# Altium integrated library 74xx-little-us.IntLib: 55 symbols
Pins are listed as number, name and electrical type; pins without a type are passive.

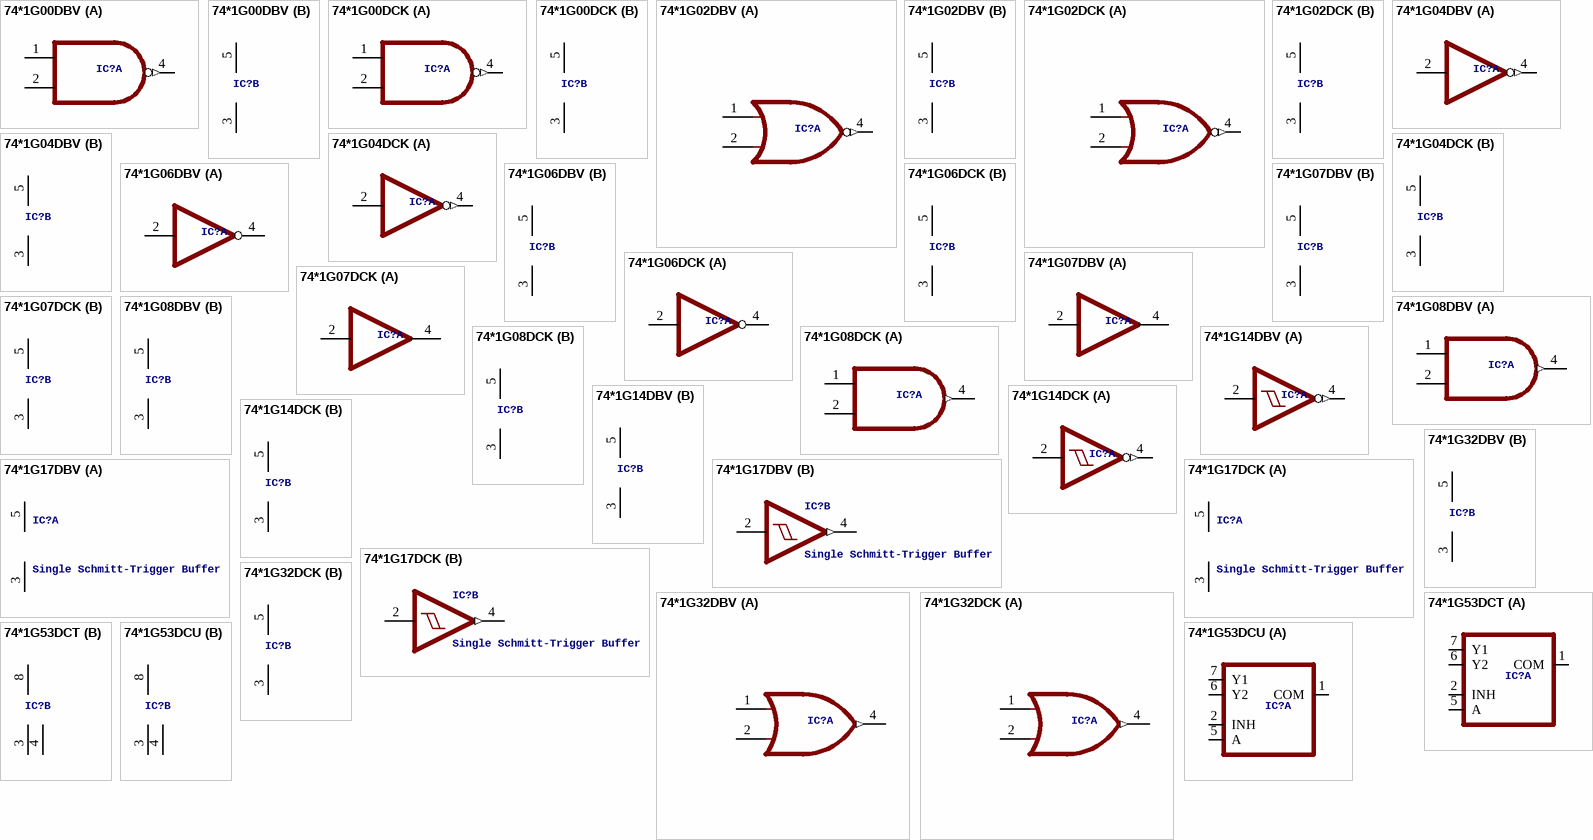
[diagram p0: symbols 74*1G00DBV to 74*1G53DCU]

## 74*1G00DBV
designator IC?, comment 2-input NAND gate  (value not drawn)
footprint SOT23-5
part A pins: 1 I0, 2 I1, 4 O (out)
part B pins: 3 GND (power), 5 VCC (power)

## 74*1G00DCK
designator IC?, comment 2-input NAND gate  (value not drawn)
footprint SC70-5
part A pins: 1 I0, 2 I1, 4 O (out)
part B pins: 3 GND (power), 5 VCC (power)

## 74*1G02DBV
designator IC?, comment 2-input NOR gate  (value not drawn)
footprint SOT23-5
part A pins: 1 I0, 2 I1, 4 O (out)
part B pins: 3 GND (power), 5 VCC (power)

## 74*1G02DCK
designator IC?, comment 2-input NOR gate  (value not drawn)
footprint SC70-5
part A pins: 1 I0, 2 I1, 4 O (out)
part B pins: 3 GND (power), 5 VCC (power)

## 74*1G04DBV
designator IC?, comment INVERTER Gate  (value not drawn)
footprint SOT23-5
part A pins: 2 I, 4 O (out)
part B pins: 3 GND (power), 5 VCC (power)

## 74*1G04DCK
designator IC?, comment INVERTER Gate  (value not drawn)
footprint SC70-5
part A pins: 2 I, 4 O (out)
part B pins: 3 GND (power), 5 VCC (power)

## 74*1G06DBV
designator IC?, comment Single Inverter Buffer/Driver With Open-Drain Output  (value not drawn)
footprint SOT23-5
part A pins: 2 I, 4 O (oc)
part B pins: 3 GND (power), 5 VCC (power)

## 74*1G06DCK
designator IC?, comment Single Inverter Buffer/Driver With Open-Drain Output  (value not drawn)
footprint SC70-5
part A pins: 2 I, 4 O (oc)
part B pins: 3 GND (power), 5 VCC (power)

## 74*1G07DBV
designator IC?, comment Single Buffer/Driver With Open-Drain Output  (value not drawn)
footprint SOT23-5
part A pins: 2 I, 4 O (oc)
part B pins: 3 GND (power), 5 VCC (power)

## 74*1G07DCK
designator IC?, comment Single Buffer/Driver With Open-Drain Output  (value not drawn)
footprint SC70-5
part A pins: 2 I, 4 O (oc)
part B pins: 3 GND (power), 5 VCC (power)

## 74*1G08DBV
designator IC?, comment 2-input AND gate  (value not drawn)
footprint SOT23-5
part A pins: 1 I0, 2 I1, 4 O (out)
part B pins: 3 GND (power), 5 VCC (power)

## 74*1G08DCK
designator IC?, comment 2-input AND gate  (value not drawn)
footprint SC70-5
part A pins: 1 I0, 2 I1, 4 O (out)
part B pins: 3 GND (power), 5 VCC (power)

## 74*1G14DBV
designator IC?, comment Single Schmitt-Trigger Inverter Gate  (value not drawn)
footprint SOT23-5
part A pins: 2 I, 4 O (out)
part B pins: 3 GND (power), 5 VCC (power)

## 74*1G14DCK
designator IC?, comment Single Schmitt-Trigger Inverter Gate  (value not drawn)
footprint SC70-5
part A pins: 2 I, 4 O (out)
part B pins: 3 GND (power), 5 VCC (power)

## 74*1G17DBV
designator IC?, comment Single Schmitt-Trigger Buffer
footprint SOT23-5
part A pins: 3 GND (power), 5 VCC (power)
part B pins: 2 I, 4 O (out)

## 74*1G17DCK
designator IC?, comment Single Schmitt-Trigger Buffer
footprint SC70-5
part A pins: 3 GND (power), 5 VCC (power)
part B pins: 2 I, 4 O (out)

## 74*1G32DBV
designator IC?, comment 2-input OR gate  (value not drawn)
footprint SOT23-5
part A pins: 1 I0, 2 I1, 4 O (out)
part B pins: 3 GND (power), 5 VCC (power)

## 74*1G32DCK
designator IC?, comment 2-input OR gate  (value not drawn)
footprint SC70-5
part A pins: 1 I0, 2 I1, 4 O (out)
part B pins: 3 GND (power), 5 VCC (power)

## 74*1G53DCT
designator IC?, comment SINGLE-POLE DOUBLE-THROW (SPDT) ANALOG SWITCH 2:1 ANALOG MULTIPLEXER/DEMULTIPLEXER   Source: http://focus.ti.com/lit/ds/symlink/sn74lvc2g53.pdf  (value not drawn)
footprint DCT_R-PDSO-G8
part A pins: 1 COM, 2 INH, 5 A, 6 Y2, 7 Y1
part B pins: 3 GND (power), 4 GND@1 (power), 8 VCC (power)

## 74*1G53DCU
designator IC?, comment SINGLE-POLE DOUBLE-THROW (SPDT) ANALOG SWITCH 2:1 ANALOG MULTIPLEXER/DEMULTIPLEXER   Source: http://focus.ti.com/lit/ds/symlink/sn74lvc2g53.pdf  (value not drawn)
footprint DCU_R-PDSO-G8
part A pins: 1 COM, 2 INH, 5 A, 6 Y2, 7 Y1
part B pins: 3 GND (power), 4 GND@1 (power), 8 VCC (power)

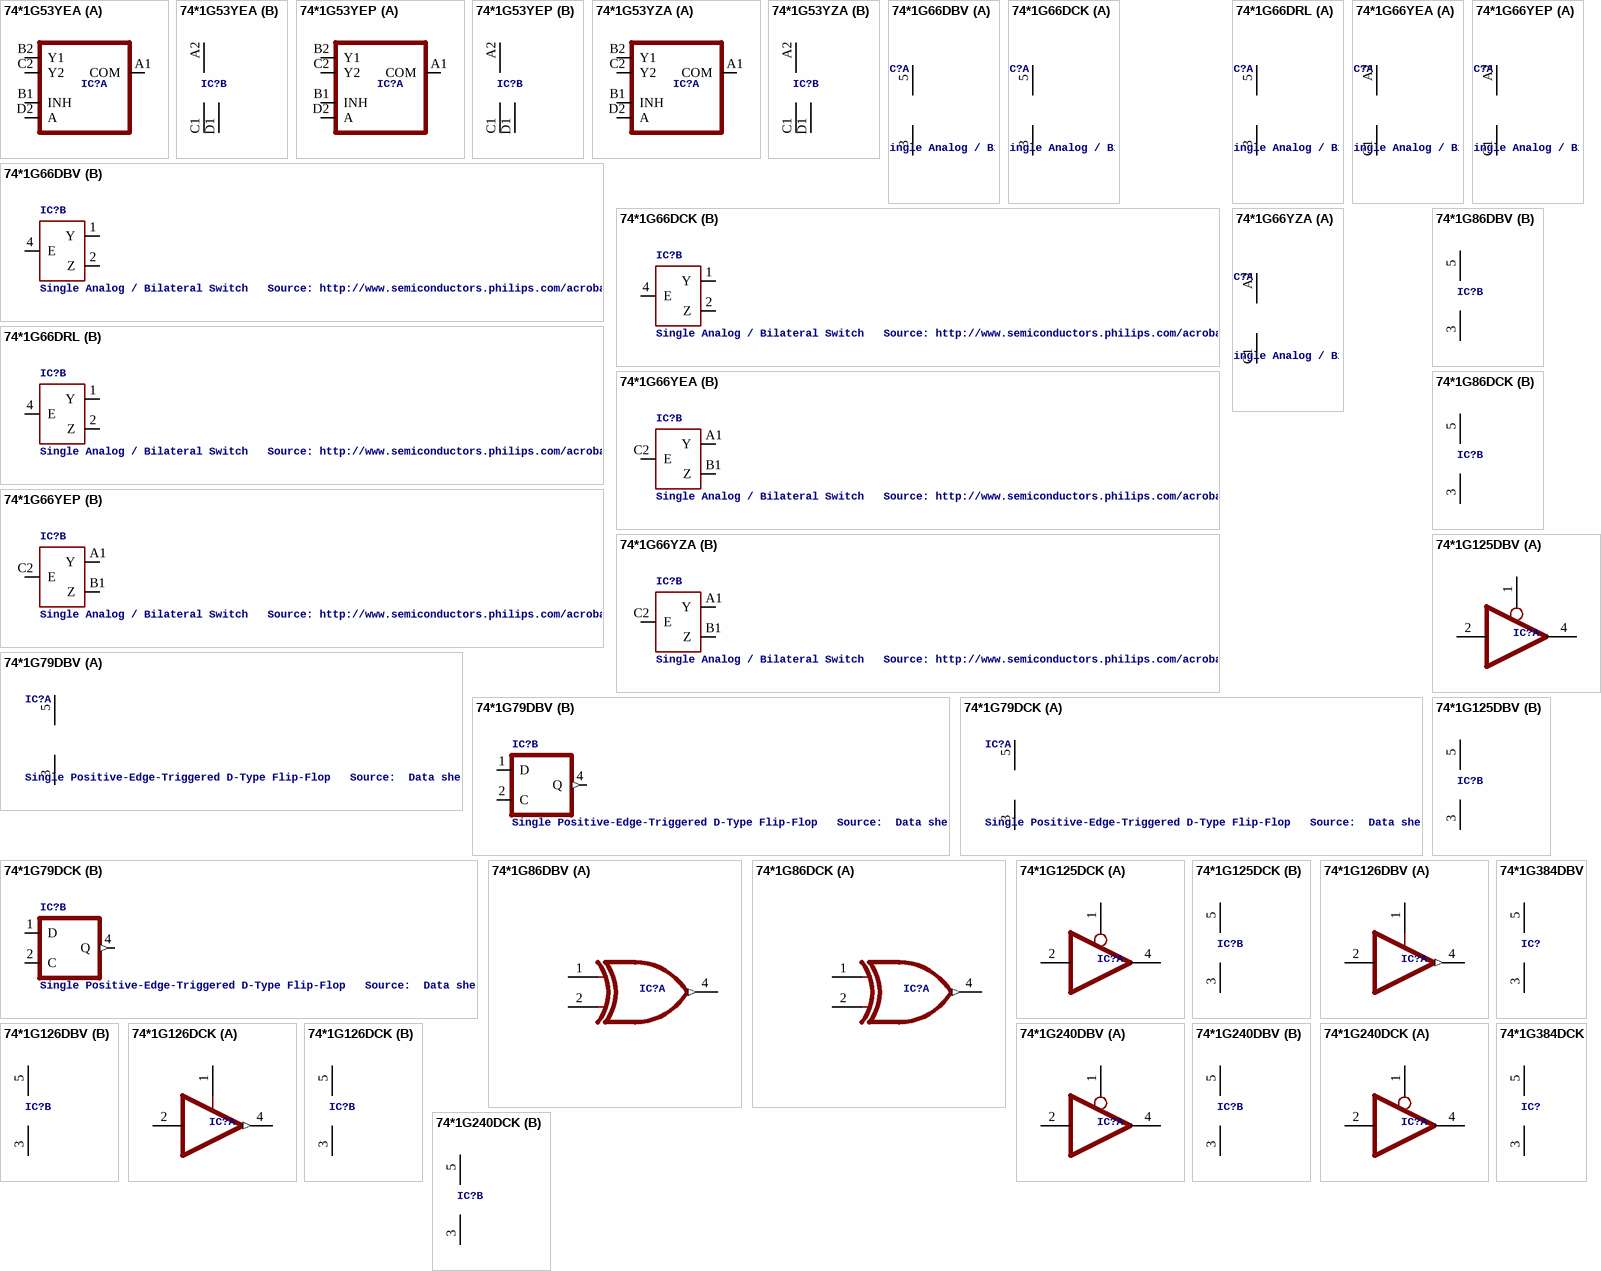
[diagram p1: symbols 74*1G53YEA to 74*1G384DCK]

## 74*1G53YEA
designator IC?, comment SINGLE-POLE DOUBLE-THROW (SPDT) ANALOG SWITCH 2:1 ANALOG MULTIPLEXER/DEMULTIPLEXER   Source: http://focus.ti.com/lit/ds/symlink/sn74lvc2g53.pdf  (value not drawn)
footprint YEA_R-XBGA-N8
part A pins: A1 COM, B1 INH, B2 Y1, C2 Y2, D2 A
part B pins: A2 VCC (power), C1 GND (power), D1 GND@1 (power)

## 74*1G53YEP
designator IC?, comment SINGLE-POLE DOUBLE-THROW (SPDT) ANALOG SWITCH 2:1 ANALOG MULTIPLEXER/DEMULTIPLEXER   Source: http://focus.ti.com/lit/ds/symlink/sn74lvc2g53.pdf  (value not drawn)
footprint YEP_R-XBGA-N8
part A pins: A1 COM, B1 INH, B2 Y1, C2 Y2, D2 A
part B pins: A2 VCC (power), C1 GND (power), D1 GND@1 (power)

## 74*1G53YZA
designator IC?, comment SINGLE-POLE DOUBLE-THROW (SPDT) ANALOG SWITCH 2:1 ANALOG MULTIPLEXER/DEMULTIPLEXER   Source: http://focus.ti.com/lit/ds/symlink/sn74lvc2g53.pdf  (value not drawn)
footprint YZA_R-XBGA-N8
part A pins: A1 COM, B1 INH, B2 Y1, C2 Y2, D2 A
part B pins: A2 VCC (power), C1 GND (power), D1 GND@1 (power)

## 74*1G66DBV
designator IC?, comment Single Analog / Bilateral Switch   Source: http://www.semiconductors.philips.com/acrobat_download/datasheets/74HC_HCT1G66_3.pdf
footprint SOT23-5
part A pins: 3 GND (power), 5 VCC (power)
part B pins: 1 Y, 2 Z, 4 E

## 74*1G66DCK
designator IC?, comment Single Analog / Bilateral Switch   Source: http://www.semiconductors.philips.com/acrobat_download/datasheets/74HC_HCT1G66_3.pdf
footprint SC70-5
part A pins: 3 GND (power), 5 VCC (power)
part B pins: 1 Y, 2 Z, 4 E

## 74*1G66DRL
designator IC?, comment Single Analog / Bilateral Switch   Source: http://www.semiconductors.philips.com/acrobat_download/datasheets/74HC_HCT1G66_3.pdf
footprint DRL_R-PDSO-N6
part A pins: 3 GND (power), 5 VCC (power)
part B pins: 1 Y, 2 Z, 4 E

## 74*1G66YEA
designator IC?, comment Single Analog / Bilateral Switch   Source: http://www.semiconductors.philips.com/acrobat_download/datasheets/74HC_HCT1G66_3.pdf
footprint YEA_R-XBGA-N5
part A pins: A2 VCC (power), C1 GND (power)
part B pins: A1 Y, B1 Z, C2 E

## 74*1G66YEP
designator IC?, comment Single Analog / Bilateral Switch   Source: http://www.semiconductors.philips.com/acrobat_download/datasheets/74HC_HCT1G66_3.pdf
footprint YEP_R-XBGA-N5
part A pins: A2 VCC (power), C1 GND (power)
part B pins: A1 Y, B1 Z, C2 E

## 74*1G66YZA
designator IC?, comment Single Analog / Bilateral Switch   Source: http://www.semiconductors.philips.com/acrobat_download/datasheets/74HC_HCT1G66_3.pdf
footprint YZA_R-XBGA-N5
part A pins: A2 VCC (power), C1 GND (power)
part B pins: A1 Y, B1 Z, C2 E

## 74*1G79DBV
designator IC?, comment Single Positive-Edge-Triggered D-Type Flip-Flop   Source:  Data sheet
footprint SOT23-5
part A pins: 3 GND (power), 5 VCC (power)
part B pins: 1 D, 2 C, 4 Q (out)

## 74*1G79DCK
designator IC?, comment Single Positive-Edge-Triggered D-Type Flip-Flop   Source:  Data sheet
footprint SC70-5
part A pins: 3 GND (power), 5 VCC (power)
part B pins: 1 D, 2 C, 4 Q (out)

## 74*1G86DBV
designator IC?, comment 2-input EXCLUSIV-OR gate  (value not drawn)
footprint SOT23-5
part A pins: 1 I0, 2 I1, 4 O (out)
part B pins: 3 GND (power), 5 VCC (power)

## 74*1G86DCK
designator IC?, comment 2-input EXCLUSIV-OR gate  (value not drawn)
footprint SC70-5
part A pins: 1 I0, 2 I1, 4 O (out)
part B pins: 3 GND (power), 5 VCC (power)

## 74*1G125DBV
designator IC?, comment Single Bus Buffer Gate with 3-State Output  (value not drawn)
footprint SOT23-5
part A pins: 1 OE, 2 I, 4 O (hiz)
part B pins: 3 GND (power), 5 VCC (power)

## 74*1G125DCK
designator IC?, comment Single Bus Buffer Gate with 3-State Output  (value not drawn)
footprint SC70-5
part A pins: 1 OE, 2 I, 4 O (hiz)
part B pins: 3 GND (power), 5 VCC (power)

## 74*1G126DBV
designator IC?, comment Single Bus Buffer Gate With 3-State Outputs  (value not drawn)
footprint SOT23-5
part A pins: 1 OE, 2 I, 4 O (out)
part B pins: 3 GND (power), 5 VCC (power)

## 74*1G126DCK
designator IC?, comment Single Bus Buffer Gate With 3-State Outputs  (value not drawn)
footprint SC70-5
part A pins: 1 OE, 2 I, 4 O (out)
part B pins: 3 GND (power), 5 VCC (power)

## 74*1G240DBV
designator IC?, comment Single Buffer/Driver With 3-State Outputs  (value not drawn)
footprint SOT23-5
part A pins: 1 OE, 2 I, 4 O (hiz)
part B pins: 3 GND (power), 5 VCC (power)

## 74*1G240DCK
designator IC?, comment Single Buffer/Driver With 3-State Outputs  (value not drawn)
footprint SC70-5
part A pins: 1 OE, 2 I, 4 O (hiz)
part B pins: 3 GND (power), 5 VCC (power)

## 74*1G384DBV
designator IC?, comment Single FET Bus Switch  (value not drawn)
footprint SOT23-5
pins: 3 GND (power), 5 VCC (power)

## 74*1G384DCK
designator IC?, comment Single FET Bus Switch  (value not drawn)
footprint SC70-5
pins: 3 GND (power), 5 VCC (power)

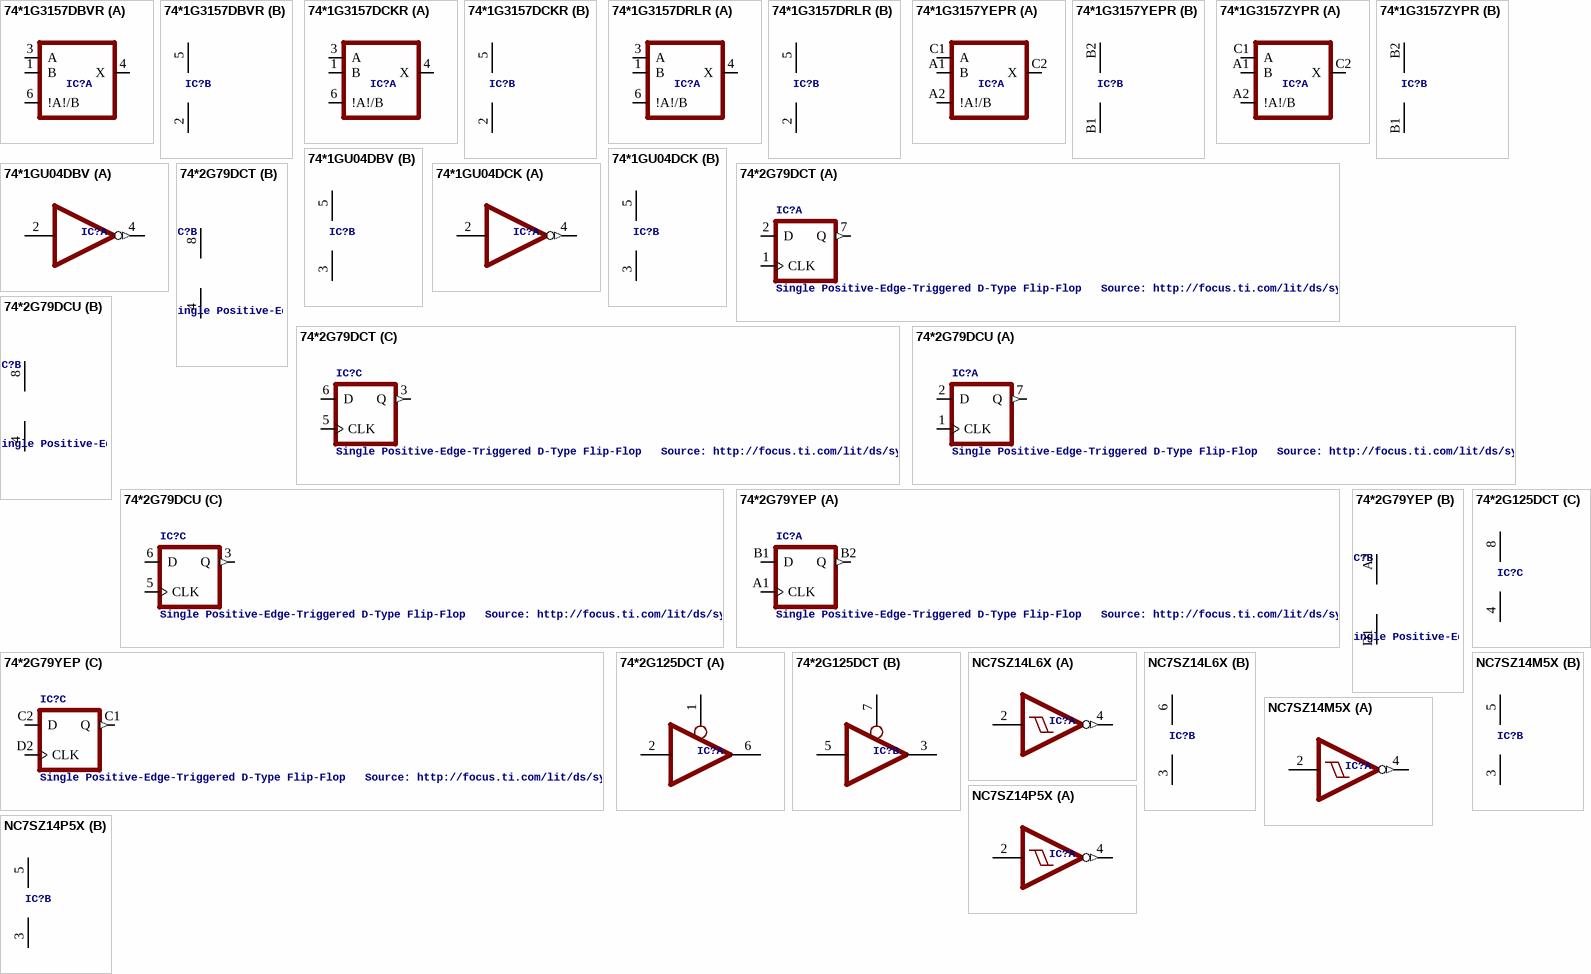
[diagram p2: symbols 74*1G3157DBVR to NC7SZ14P5X]

## 74*1G3157DBVR
designator IC?, comment Single-Pole, Double-Throw Analog Switch   Source: http://focus.ti.com/lit/ds/symlink/sn74lvc1g3157.pdf  (value not drawn)
footprint DBV_R-PDSO-G6
part A pins: 1 B, 3 A, 4 X, 6 !A!/B
part B pins: 2 GND (power), 5 VCC (power)

## 74*1G3157DCKR
designator IC?, comment Single-Pole, Double-Throw Analog Switch   Source: http://focus.ti.com/lit/ds/symlink/sn74lvc1g3157.pdf  (value not drawn)
footprint DCK_R-PDSO-G6
part A pins: 1 B, 3 A, 4 X, 6 !A!/B
part B pins: 2 GND (power), 5 VCC (power)

## 74*1G3157DRLR
designator IC?, comment Single-Pole, Double-Throw Analog Switch   Source: http://focus.ti.com/lit/ds/symlink/sn74lvc1g3157.pdf  (value not drawn)
footprint DRL_R-PDSO-N6
part A pins: 1 B, 3 A, 4 X, 6 !A!/B
part B pins: 2 GND (power), 5 VCC (power)

## 74*1G3157YEPR
designator IC?, comment Single-Pole, Double-Throw Analog Switch   Source: http://focus.ti.com/lit/ds/symlink/sn74lvc1g3157.pdf  (value not drawn)
footprint YEP_R-XBGA-N6
part A pins: A1 B, A2 !A!/B, C1 A, C2 X
part B pins: B1 GND (power), B2 VCC (power)

## 74*1G3157ZYPR
designator IC?, comment Single-Pole, Double-Throw Analog Switch   Source: http://focus.ti.com/lit/ds/symlink/sn74lvc1g3157.pdf  (value not drawn)
footprint YZP_R-XBGA-N6
part A pins: A1 B, A2 !A!/B, C1 A, C2 X
part B pins: B1 GND (power), B2 VCC (power)

## 74*1GU04DBV
designator IC?, comment Single Unbuffered Inverter  (value not drawn)
footprint SOT23-5
part A pins: 2 I, 4 O (out)
part B pins: 3 GND (power), 5 VCC (power)

## 74*1GU04DCK
designator IC?, comment Single Unbuffered Inverter  (value not drawn)
footprint SC70-5
part A pins: 2 I, 4 O (out)
part B pins: 3 GND (power), 5 VCC (power)

## 74*2G79DCT
designator IC?, comment Single Positive-Edge-Triggered D-Type Flip-Flop   Source: http://focus.ti.com/lit/ds/symlink/sn74lvc2g79.pdf
footprint DCT_R-PDSO-G8
part A pins: 1 CLK, 2 D, 7 Q (out)
part B pins: 4 GND (power), 8 VCC (power)
part C pins: 3 Q (out), 5 CLK, 6 D

## 74*2G79DCU
designator IC?, comment Single Positive-Edge-Triggered D-Type Flip-Flop   Source: http://focus.ti.com/lit/ds/symlink/sn74lvc2g79.pdf
footprint DCU_R-PDSO-G8
part A pins: 1 CLK, 2 D, 7 Q (out)
part B pins: 4 GND (power), 8 VCC (power)
part C pins: 3 Q (out), 5 CLK, 6 D

## 74*2G79YEP
designator IC?, comment Single Positive-Edge-Triggered D-Type Flip-Flop   Source: http://focus.ti.com/lit/ds/symlink/sn74lvc2g79.pdf
footprint YEP_R-XBGA-N8
part A pins: A1 CLK, B1 D, B2 Q (out)
part B pins: A2 VCC (power), D1 GND (power)
part C pins: C1 Q (out), C2 D, D2 CLK

## 74*2G125DCT
designator IC?, comment Dual line drivers with 3-state outputs.  (value not drawn)
footprint SSOP08
part A pins: 1 OE, 2 I, 6 O (hiz)
part B pins: 3 O (hiz), 5 I, 7 OE
part C pins: 4 GND (power), 8 VCC (power)

## NC7SZ14L6X
designator IC?, comment TinyLogic(R) UHS Inverter with Schmitt Trigger Input   Source: http://www.fairchildsemi.com/ds/NC/NC7SZ14.pdf  (value not drawn)
footprint MAC06A
part A pins: 2 I, 4 O (out)
part B pins: 3 GND (power), 6 VCC (power)

## NC7SZ14M5X
designator IC?, comment TinyLogic(R) UHS Inverter with Schmitt Trigger Input   Source: http://www.fairchildsemi.com/ds/NC/NC7SZ14.pdf  (value not drawn)
footprint SOT23-5
part A pins: 2 I, 4 O (out)
part B pins: 3 GND (power), 5 VCC (power)

## NC7SZ14P5X
designator IC?, comment TinyLogic(R) UHS Inverter with Schmitt Trigger Input   Source: http://www.fairchildsemi.com/ds/NC/NC7SZ14.pdf  (value not drawn)
footprint SC70-5
part A pins: 2 I, 4 O (out)
part B pins: 3 GND (power), 5 VCC (power)